# EAGLE library part WE-LAN-10/100/1000-BASE-T,POE,749023015 (library WE-LAN-10_100_1000-BASE-T,POE,749023015)
LAN-Transformer WE-LAN 10/10/1000 Base Tx - Compliant with IEEE 802.3 standards - SMD -- Ethernet -- Power over Ethernet -- 1 Gigabit Ethernet -- Compliant with most IC's for ethernet applications like Intel, AMD, Globespan and Realtek -- Hub, Router, Switch
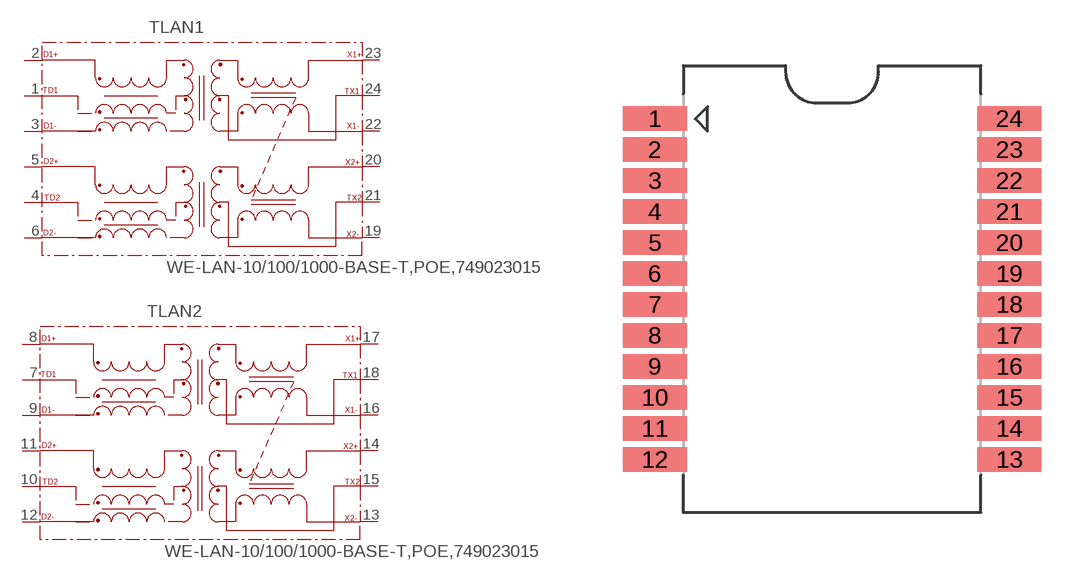
[diagram p0: symbol with the pads of 749023015; footprint 749023015]

Designator prefix T; gates LAN1=749023015 LAN2=749023015

## WE-LAN-10/100/1000-BASE-T,POE,749023015 (MPN: 749023015; OC_FARNELL: 1636362; OC_NEWARK: 08P2954; PACKAGE: 10/100/1000/Base-T PoE; SUPPLIER: Wuerth Elektronik)  [749023015]
1  LAN1:TD1
2  LAN1:D1+
3  LAN1:D1-
4  LAN1:TD2
5  LAN1:D2+
6  LAN1:D2-
7  LAN2:TD1
8  LAN2:D1+
9  LAN2:D1-
10  LAN2:TD2
11  LAN2:D2+
12  LAN2:D2-
13  LAN2:X2-
14  LAN2:X2+
15  LAN2:TX2
16  LAN2:X1-
17  LAN2:X1+
18  LAN2:TX1
19  LAN1:X2-
20  LAN1:X2+
21  LAN1:TX2
22  LAN1:X1-
23  LAN1:X1+
24  LAN1:TX1

## Footprint 749023015 (pad centres in mm)
MAX Height = 6.35 mm
smd 2.62 x 1.01: 1 -7.265,6.98; 2 -7.265,5.71; 3 -7.265,4.44; 4 -7.265,3.17; 5 -7.265,1.9; 6 -7.265,0.63; 7 -7.265,-0.63; 8 -7.265,-1.9; 9 -7.265,-3.17; 10 -7.265,-4.44; 11 -7.265,-5.71; 12 -7.265,-6.98; 13 7.265,-6.98; 14 7.265,-5.71; 15 7.265,-4.44; 16 7.265,-3.17; 17 7.265,-1.9; 18 7.265,-0.63; 19 7.265,0.63; 20 7.265,1.9; 21 7.265,3.17; 22 7.265,4.44; 23 7.265,5.71; 24 7.265,6.98